# Altium integrated library MMASL105SB7104MFNA18.IntLib: 1 symbol
Pins are listed as number, name and electrical type; pins without a type are passive.

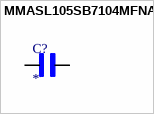
[diagram p0: symbol MMASL105SB7104MFNA18]

## MMASL105SB7104MFNA18
designator C?
0.1uF 10V 20% Multilayer Ceramic Capacitor X7R 0402 (1005 Metric); MF: Taiyo Yuden; MP: MMASL105SB7104MFNA18; SnapEDA_Link: https://www.snapeda.com/parts/MMASL105SB7104MFNA18/Taiyo+Yuden/view-part/?ref=snap; Package: 1005-2 TAIYO; Value: *; Check_prices: https://www.snapeda.com/parts/MMASL105SB7104MFNA18/Taiyo+Yuden/view-part/?ref=eda
footprint CAPC1005X55N
pins: 1, 2